# Altium schematic symbol library SCH - ARM CORTEX - STM STM32F103R(C-D-E)Yx.SchLib: 1 symbol
Pins are listed as number, name and electrical type; pins without a type are passive.

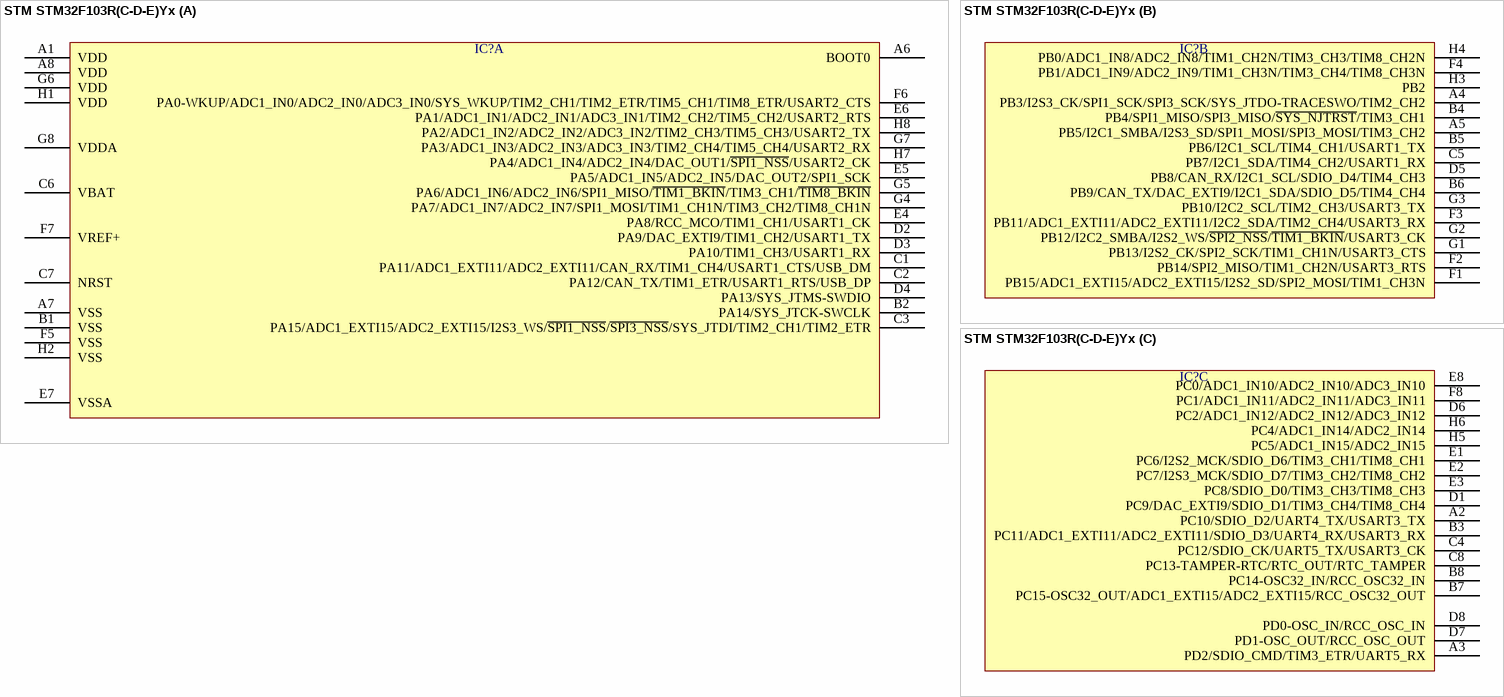
[diagram p0: symbol STM STM32F103R(C-D-E)Yx]

## STM STM32F103R(C-D-E)Yx
designator IC?  (value not drawn)
part A pins: A1 VDD, A6 BOOT0, A7 VSS, A8 VDD, B1 VSS, B2 PA14/SYS_JTCK-SWCLK, C1 PA11/ADC1_EXTI11/ADC2_EXTI11/CAN_RX/TIM1_CH4/USART1_CTS/USB_DM, C2 PA12/CAN_TX/TIM1_ETR/USART1_RTS/USB_DP, C3 PA15/ADC1_EXTI15/ADC2_EXTI15/I2S3_WS/~{SPI1_NSS}/~{SPI3_NSS}/SYS_JTDI/TIM2_CH1/TIM2_ETR, C6 VBAT, C7 NRST, D2 PA9/DAC_EXTI9/TIM1_CH2/USART1_TX, D3 PA10/TIM1_CH3/USART1_RX, D4 PA13/SYS_JTMS-SWDIO, E4 PA8/RCC_MCO/TIM1_CH1/USART1_CK, E5 PA5/ADC1_IN5/ADC2_IN5/DAC_OUT2/SPI1_SCK, E6 PA1/ADC1_IN1/ADC2_IN1/ADC3_IN1/TIM2_CH2/TIM5_CH2/USART2_RTS, E7 VSSA, F5 VSS, F6 PA0-WKUP/ADC1_IN0/ADC2_IN0/ADC3_IN0/SYS_WKUP/TIM2_CH1/TIM2_ETR/TIM5_CH1/TIM8_ETR/USART2_CTS, F7 VREF+, G4 PA7/ADC1_IN7/ADC2_IN7/SPI1_MOSI/TIM1_CH1N/TIM3_CH2/TIM8_CH1N, G5 PA6/ADC1_IN6/ADC2_IN6/SPI1_MISO/~{TIM1_BKIN}/TIM3_CH1/~{TIM8_BKIN}, G6 VDD, G7 PA3/ADC1_IN3/ADC2_IN3/ADC3_IN3/TIM2_CH4/TIM5_CH4/USART2_RX, G8 VDDA, H1 VDD, H2 VSS, H7 PA4/ADC1_IN4/ADC2_IN4/DAC_OUT1/~{SPI1_NSS}/USART2_CK, H8 PA2/ADC1_IN2/ADC2_IN2/ADC3_IN2/TIM2_CH3/TIM5_CH3/USART2_TX
part B pins: A4 PB3/I2S3_CK/SPI1_SCK/SPI3_SCK/SYS_JTDO-TRACESWO/TIM2_CH2, A5 PB5/I2C1_SMBA/I2S3_SD/SPI1_MOSI/SPI3_MOSI/TIM3_CH2, B4 PB4/SPI1_MISO/SPI3_MISO/~{SYS_NJTRST}/TIM3_CH1, B5 PB6/I2C1_SCL/TIM4_CH1/USART1_TX, B6 PB9/CAN_TX/DAC_EXTI9/I2C1_SDA/SDIO_D5/TIM4_CH4, C5 PB7/I2C1_SDA/TIM4_CH2/USART1_RX, D5 PB8/CAN_RX/I2C1_SCL/SDIO_D4/TIM4_CH3, F1 PB15/ADC1_EXTI15/ADC2_EXTI15/I2S2_SD/SPI2_MOSI/TIM1_CH3N, F2 PB14/SPI2_MISO/TIM1_CH2N/USART3_RTS, F3 PB11/ADC1_EXTI11/ADC2_EXTI11/I2C2_SDA/TIM2_CH4/USART3_RX, F4 PB1/ADC1_IN9/ADC2_IN9/TIM1_CH3N/TIM3_CH4/TIM8_CH3N, G1 PB13/I2S2_CK/SPI2_SCK/TIM1_CH1N/USART3_CTS, G2 PB12/I2C2_SMBA/I2S2_WS/~{SPI2_NSS}/~{TIM1_BKIN}/USART3_CK, G3 PB10/I2C2_SCL/TIM2_CH3/USART3_TX, H3 PB2, H4 PB0/ADC1_IN8/ADC2_IN8/TIM1_CH2N/TIM3_CH3/TIM8_CH2N
part C pins: A2 PC10/SDIO_D2/UART4_TX/USART3_TX, A3 PD2/SDIO_CMD/TIM3_ETR/UART5_RX, B3 PC11/ADC1_EXTI11/ADC2_EXTI11/SDIO_D3/UART4_RX/USART3_RX, B7 PC15-OSC32_OUT/ADC1_EXTI15/ADC2_EXTI15/RCC_OSC32_OUT, B8 PC14-OSC32_IN/RCC_OSC32_IN, C4 PC12/SDIO_CK/UART5_TX/USART3_CK, C8 PC13-TAMPER-RTC/RTC_OUT/RTC_TAMPER, D1 PC9/DAC_EXTI9/SDIO_D1/TIM3_CH4/TIM8_CH4, D6 PC2/ADC1_IN12/ADC2_IN12/ADC3_IN12, D7 PD1-OSC_OUT/RCC_OSC_OUT, D8 PD0-OSC_IN/RCC_OSC_IN, E1 PC6/I2S2_MCK/SDIO_D6/TIM3_CH1/TIM8_CH1, E2 PC7/I2S3_MCK/SDIO_D7/TIM3_CH2/TIM8_CH2, E3 PC8/SDIO_D0/TIM3_CH3/TIM8_CH3, E8 PC0/ADC1_IN10/ADC2_IN10/ADC3_IN10, F8 PC1/ADC1_IN11/ADC2_IN11/ADC3_IN11, H5 PC5/ADC1_IN15/ADC2_IN15, H6 PC4/ADC1_IN14/ADC2_IN14